# EAGLE library part ISP-SWD (library U-ARM)
ARM Serial Wire Debug (SWD) In-System Programming with SWD replaces the 5-pin JTAG port with a clock + single bi-directional data pin, providing all the normal JTAG debug and test functionality plus real-time access to system memory without halting the processor or requiring any target resident code http://www.arm.com/products/system-ip/debug-trace/coresight-soc-components/serial-wire-debug.php
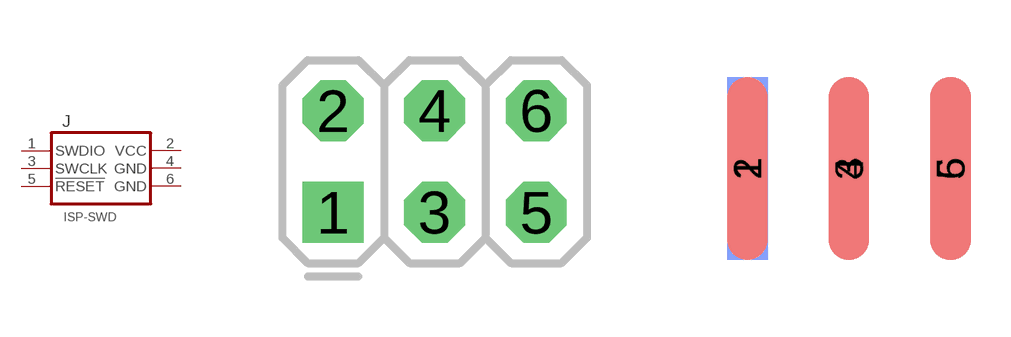
[diagram p0: symbol with the pads of ISP; footprints ISP, ISP-EDG]

Designator prefix J

## ISP-SWDPTH  [ISP]
1  SWDIO
2  VCC
3  SWCLK
4  GND
5  !RESET
6  GND

## ISP-SWDEDG  [ISP-EDG]
Pads as for ISP

## Footprint ISP (pad centres in mm)
drill 1.016 square: 1 0,0
drill 1.016 octagon: 2 0,2.54; 3 2.54,0; 4 2.54,2.54; 5 5.08,0; 6 5.08,2.54

## Footprint ISP-EDG (pad centres in mm)
Place at edge of board, used to solder a connector on side of board e.g. PPPC032LFBN [SULLINS,PPPC032LFBN-RC] CONN HEADER FEMALE 3X2POS ,1IN
smd 1.016 x 4.572 bottom: 1 -2.54,2.286; 3 0,2.286; 5 2.54,2.286
smd 1.016 x 4.572: 2 -2.54,2.286; 4 0,2.286; 6 2.54,2.286